# EAGLE library part THAT2180 (library synth)
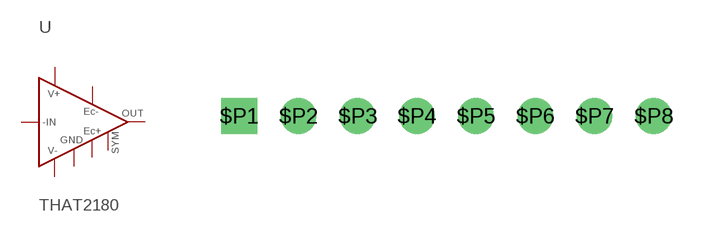
[diagram p3: symbol with the pads of SIP8; footprint SIP8]

Designator prefix -

## THAT2180  [SIP8]
$P1  -IN
$P2  EC+
$P3  EC-
$P4  SYM
$P5  V-
$P6  GND
$P7  V+
$P8  OUT

## Footprint SIP8 (pad centres in mm)
drill 1.016 square: $P1 0,0
drill 1.016: $P2 2.54,0; $P3 5.08,0; $P4 7.62,0; $P5 10.16,0; $P6 12.7,0; $P7 15.24,0; $P8 17.78,0